# Altium footprint library BGA289C50P17X17_900X900X141.PcbLib: 1 footprints
Each footprint in its own frame and in the unit in brackets; x right, y up, seen from the top. Pads: shape width x height; smd on the part's side, far side on the other; paste and mask are expansions set on the pad; w line width, h text height; cw(c..) or ccw(c..) is an arc to the next point about the centre after c.
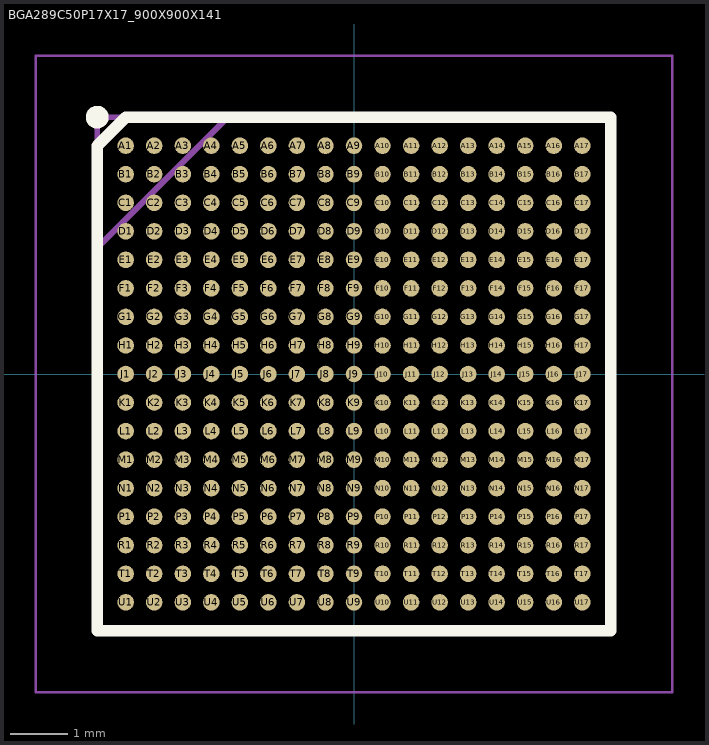
[diagram p0: the footprint, top view; thin cyan lines are the x and y axes]

## BGA289C50P17X17_900X900X141 [mm]
pads (289):
  round 0.29 smd: A1(-4,4) A2(-3.5,4) A3(-3,4) A4(-2.5,4) A5(-2,4) A6(-1.5,4) A7(-1,4) A8(-0.5,4) A9(0,4) A10(0.5,4) A11(1,4) A12(1.5,4) A13(2,4) A14(2.5,4) A15(3,4) A16(3.5,4) A17(4,4) B1(-4,3.5) B2(-3.5,3.5) B3(-3,3.5) B4(-2.5,3.5) B5(-2,3.5) B6(-1.5,3.5) B7(-1,3.5) B8(-0.5,3.5) B9(0,3.5) B10(0.5,3.5) B11(1,3.5) B12(1.5,3.5) B13(2,3.5) B14(2.5,3.5) B15(3,3.5) B16(3.5,3.5) B17(4,3.5) C1(-4,3) C2(-3.5,3) C3(-3,3) C4(-2.5,3) C5(-2,3) C6(-1.5,3) C7(-1,3) C8(-0.5,3) C9(0,3) C10(0.5,3) C11(1,3) C12(1.5,3) C13(2,3) C14(2.5,3) C15(3,3) C16(3.5,3) C17(4,3) D1(-4,2.5) D2(-3.5,2.5) D3(-3,2.5) D4(-2.5,2.5) D5(-2,2.5) D6(-1.5,2.5) D7(-1,2.5) D8(-0.5,2.5) D9(0,2.5) D10(0.5,2.5) D11(1,2.5) D12(1.5,2.5) D13(2,2.5) D14(2.5,2.5) D15(3,2.5) D16(3.5,2.5) D17(4,2.5) E1(-4,2) E2(-3.5,2) E3(-3,2) E4(-2.5,2) E5(-2,2) E6(-1.5,2) E7(-1,2) E8(-0.5,2) E9(0,2) E10(0.5,2) E11(1,2) E12(1.5,2) E13(2,2) E14(2.5,2) E15(3,2) E16(3.5,2) E17(4,2) F1(-4,1.5) F2(-3.5,1.5) F3(-3,1.5) F4(-2.5,1.5) F5(-2,1.5) F6(-1.5,1.5) F7(-1,1.5) F8(-0.5,1.5) F9(0,1.5) F10(0.5,1.5) F11(1,1.5) F12(1.5,1.5) F13(2,1.5) F14(2.5,1.5) F15(3,1.5) F16(3.5,1.5) F17(4,1.5) G1(-4,1) G2(-3.5,1) G3(-3,1) G4(-2.5,1) G5(-2,1) G6(-1.5,1) G7(-1,1) G8(-0.5,1) G9(0,1) G10(0.5,1) G11(1,1) G12(1.5,1) G13(2,1) G14(2.5,1) G15(3,1) G16(3.5,1) G17(4,1) H1(-4,0.5) H2(-3.5,0.5) H3(-3,0.5) H4(-2.5,0.5) H5(-2,0.5) H6(-1.5,0.5) H7(-1,0.5) H8(-0.5,0.5) H9(0,0.5) H10(0.5,0.5) H11(1,0.5) H12(1.5,0.5) H13(2,0.5) H14(2.5,0.5) H15(3,0.5) H16(3.5,0.5) H17(4,0.5) J1(-4,0) J2(-3.5,0) J3(-3,0) J4(-2.5,0) J5(-2,0) J6(-1.5,0) J7(-1,0) J8(-0.5,0) J9(0,0) J10(0.5,0) J11(1,0) J12(1.5,0) J13(2,0) J14(2.5,0) J15(3,0) J16(3.5,0) J17(4,0) K1(-4,-0.5) K2(-3.5,-0.5) K3(-3,-0.5) K4(-2.5,-0.5) K5(-2,-0.5) K6(-1.5,-0.5) K7(-1,-0.5) K8(-0.5,-0.5) K9(0,-0.5) K10(0.5,-0.5) K11(1,-0.5) K12(1.5,-0.5) K13(2,-0.5) K14(2.5,-0.5) K15(3,-0.5) K16(3.5,-0.5) K17(4,-0.5) L1(-4,-1) L2(-3.5,-1) L3(-3,-1) L4(-2.5,-1) L5(-2,-1) L6(-1.5,-1) L7(-1,-1) L8(-0.5,-1) L9(0,-1) L10(0.5,-1) L11(1,-1) L12(1.5,-1) L13(2,-1) L14(2.5,-1) L15(3,-1) L16(3.5,-1) L17(4,-1) M1(-4,-1.5) M2(-3.5,-1.5) M3(-3,-1.5) M4(-2.5,-1.5) M5(-2,-1.5) M6(-1.5,-1.5) M7(-1,-1.5) M8(-0.5,-1.5) M9(0,-1.5) M10(0.5,-1.5) M11(1,-1.5) M12(1.5,-1.5) M13(2,-1.5) M14(2.5,-1.5) M15(3,-1.5) M16(3.5,-1.5) M17(4,-1.5) N1(-4,-2) N2(-3.5,-2) N3(-3,-2) N4(-2.5,-2) N5(-2,-2) N6(-1.5,-2) N7(-1,-2) N8(-0.5,-2) N9(0,-2) N10(0.5,-2) N11(1,-2) N12(1.5,-2) N13(2,-2) N14(2.5,-2) N15(3,-2) N16(3.5,-2) N17(4,-2) P1(-4,-2.5) P2(-3.5,-2.5) P3(-3,-2.5) P4(-2.5,-2.5) P5(-2,-2.5) P6(-1.5,-2.5) P7(-1,-2.5) P8(-0.5,-2.5) P9(0,-2.5) P10(0.5,-2.5) P11(1,-2.5) P12(1.5,-2.5) P13(2,-2.5) P14(2.5,-2.5) P15(3,-2.5) P16(3.5,-2.5) P17(4,-2.5) R1(-4,-3) R2(-3.5,-3) R3(-3,-3) R4(-2.5,-3) R5(-2,-3) R6(-1.5,-3) R7(-1,-3) R8(-0.5,-3) R9(0,-3) R10(0.5,-3) R11(1,-3) R12(1.5,-3) R13(2,-3) R14(2.5,-3) R15(3,-3) R16(3.5,-3) R17(4,-3) T1(-4,-3.5) T2(-3.5,-3.5) T3(-3,-3.5) T4(-2.5,-3.5) T5(-2,-3.5) T6(-1.5,-3.5) T7(-1,-3.5) T8(-0.5,-3.5) T9(0,-3.5) T10(0.5,-3.5) T11(1,-3.5) T12(1.5,-3.5) T13(2,-3.5) T14(2.5,-3.5) T15(3,-3.5) T16(3.5,-3.5) T17(4,-3.5) U1(-4,-4) U2(-3.5,-4) U3(-3,-4) U4(-2.5,-4) U5(-2,-4) U6(-1.5,-4) U7(-1,-4) U8(-0.5,-4) U9(0,-4) U10(0.5,-4) U11(1,-4) U12(1.5,-4) U13(2,-4) U14(2.5,-4) U15(3,-4) U16(3.5,-4) U17(4,-4)
Top Overlay:
  circle w0.2: c-4.5,4.5 r0.1
  lines w0.2: -4.5,-4.5 4.5,-4.5 4.5,4.5 -4,4.5 -4.5,4 -4.5,-4.5
Mechanical 15:
  lines w0.1: -4.5,2.212 -2.212,4.5 ; -4.5,-4.5 4.5,-4.5 4.5,4.5 -4.5,4.5 -4.5,-4.5
Mechanical 20:
  lines w0.05: -5.575,-5.575 5.575,-5.575 5.575,5.575 -5.575,5.575 -5.575,-5.575